# Altium footprint library ACTION_分立元件.PcbLib: 65 footprints (part 2 of 5)
Each footprint in its own frame and in the unit in brackets; x right, y up, seen from the top. Pads: shape width x height; smd on the part's side, far side on the other; paste and mask are expansions set on the pad; w line width, h text height; cw(c..) or ccw(c..) is an arc to the next point about the centre after c.
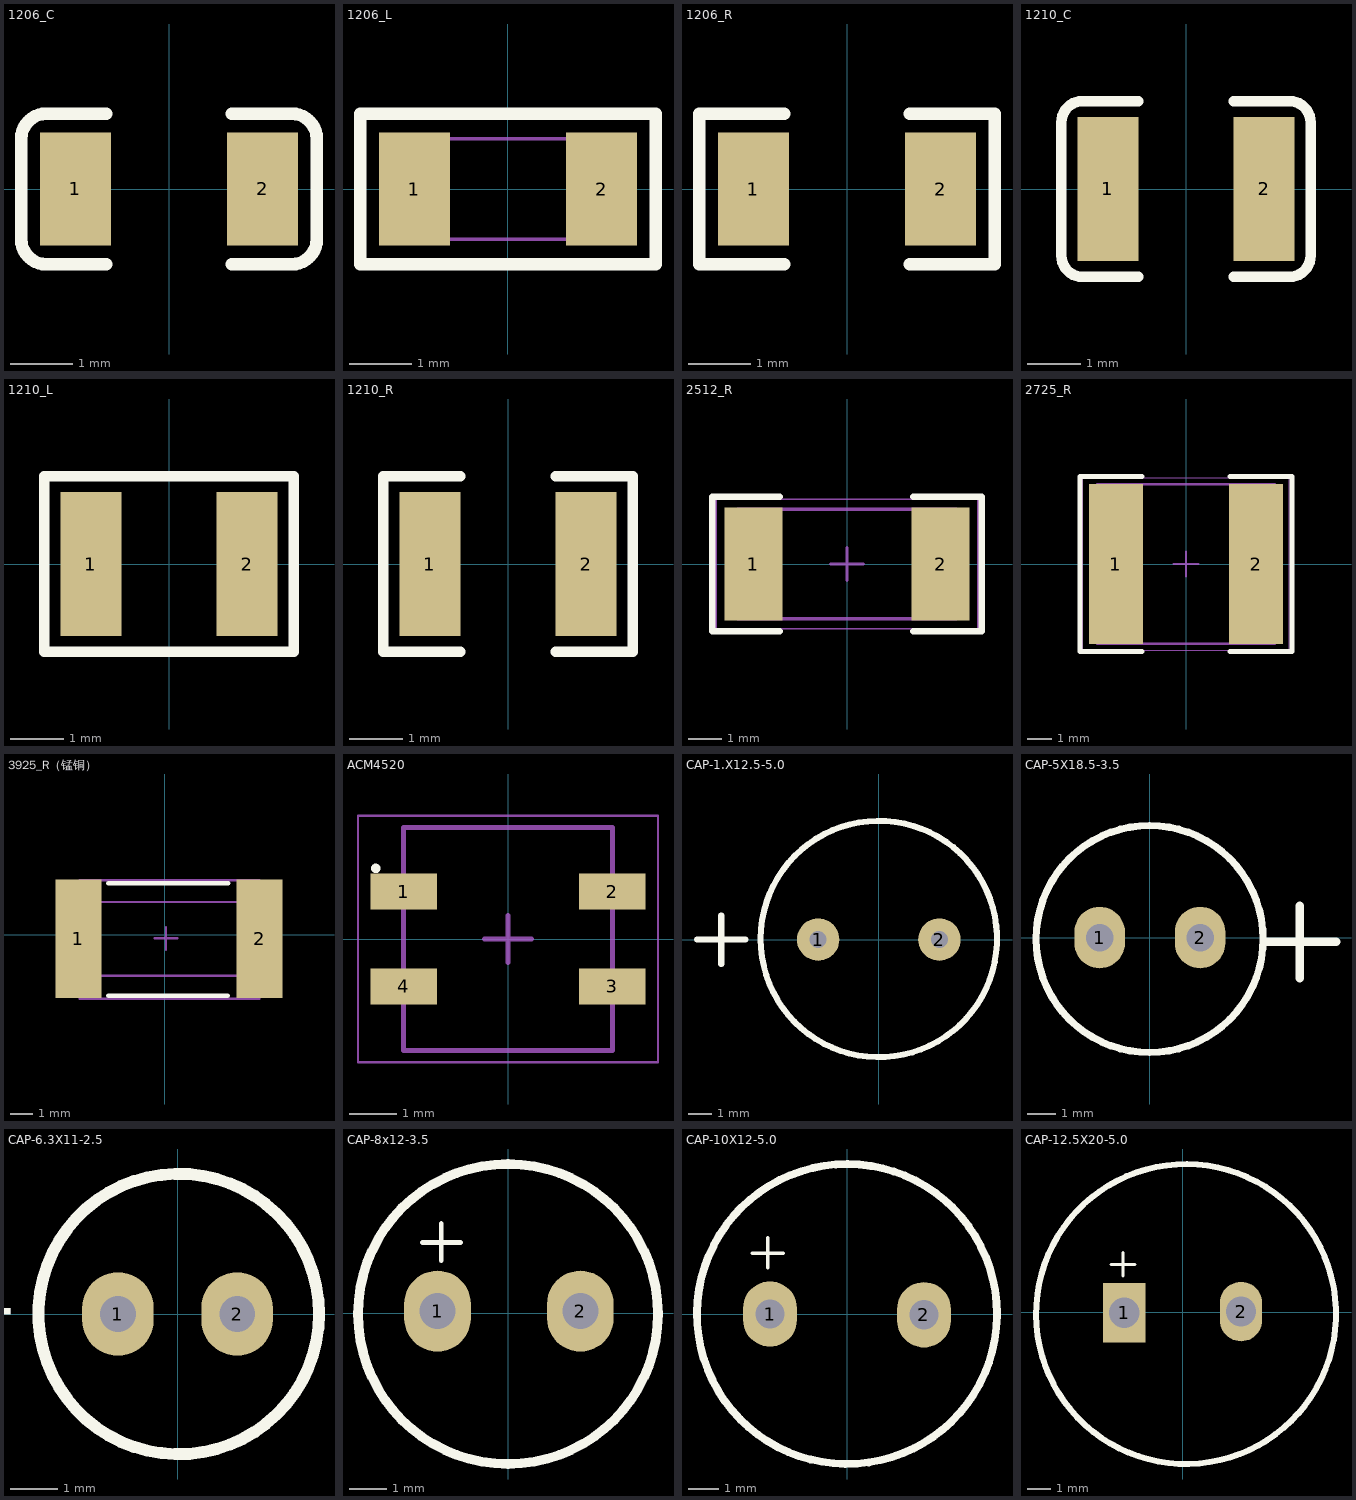
[diagram p1: the footprints below, top view; thin cyan lines are the x and y axes]

## 1206_C [mm]
pads (2):
  rect 1.13x1.8 smd: 1(-1.49,0) 2(1.49,0)
Top Overlay:
  lines w0.2: -1,-1.2 -1.955,-1.2 cw(c-1.955,-0.8) -2.355,-0.8 -2.355,0.8 cw(c-1.955,0.8) -1.955,1.2 -1,1.2 ; 1,-1.2 1.955,-1.2 ccw(c1.955,-0.8) 2.355,-0.8 2.355,0.8 ccw(c1.955,0.8) 1.955,1.2 1,1.2
3D body "C1206.STEP": height 1, standoff 0, extent -1.602,-0.813 1.598,0.787

## 1206_L [mm]
pads (2):
  rect 1.13x1.8 smd: 1(-1.49,0) 2(1.49,0)
Top Overlay:
  lines w0.2: -2.355,-1.2 -2.355,1.2 2.355,1.2 2.355,-1.2 -2.355,-1.2
Mechanical 13:
  lines w0.05: -1.6,-0.8 -1.6,0.8 1.6,0.8 1.6,-0.8 -1.6,-0.8

## 1206_R [mm]
pads (2):
  rect 1.13x1.8 smd: 1(-1.49,0) 2(1.49,0)
Top Overlay:
  lines w0.2: -1,-1.2 -2.355,-1.2 -2.355,1.2 -1,1.2 ; 1,-1.2 2.355,-1.2 2.355,1.2 1,1.2
3D body "User Library-RES_3216-1206.STEP": height 0.85, standoff 0, extent -1.7,-0.864 1.65,0.866

## 1210_C [mm]
pads (2):
  rect 1.16x2.72 smd: 1(-1.475,0) 2(1.475,0)
Top Overlay:
  lines w0.2: -0.9,-1.66 -1.955,-1.66 cw(c-1.955,-1.26) -2.355,-1.26 -2.355,1.26 cw(c-1.955,1.26) -1.955,1.66 -0.9,1.66 ; 0.9,-1.66 1.955,-1.66 ccw(c1.955,-1.26) 2.355,-1.26 2.355,1.26 ccw(c1.955,1.26) 1.955,1.66 0.9,1.66
3D body "User Library-cap_1210_lowprofile.step": height 1.3, standoff 0, extent -1.6,-1.25 1.6,1.25

## 1210_L [mm]
pads (2):
  rect 1.16x2.72 smd: 1(-1.475,0) 2(1.475,0)
Top Overlay:
  lines w0.2: 2.337,-1.66 -2.355,-1.66 -2.355,1.66 2.337,1.66 ; 2.355,-1.66 2.355,1.66
3D body "User Library-R_1210.STEP": height 0.6, standoff 0, extent -1.6,-1.25 1.6,1.25

## 1210_R [mm]
pads (2):
  rect 1.16x2.72 smd: 1(-1.475,0) 2(1.475,0)
Top Overlay:
  lines w0.2: -0.9,-1.66 -2.355,-1.66 -2.355,1.66 -0.9,1.66 ; 0.9,-1.66 2.355,-1.66 2.355,1.66 0.9,1.66
3D body "User Library-R_1210.STEP": height 0.6, standoff 0, extent -1.6,-1.25 1.6,1.25

## 2512_R [mm]
height 3.31
pads (2):
  rect 1.75x3.4 smd: 1(-2.825,0) 2(2.825,0)
Top Overlay:
  lines w0.2: -2.032,-2.032 -4.064,-2.032 -4.064,2.032 -2.032,2.032 ; 2.001,-2.032 4.033,-2.032 ; 2.001,2.032 4.033,2.032 ; 4.064,-2.032 4.064,2.032
Mechanical 13:
  lines w0.1: -3.3,-1.65 -3.3,1.65 3.3,1.65 3.3,-1.65 -3.3,-1.65
Mechanical 15:
  lines w0.05: -3.95,-1.95 -3.95,1.95 3.95,1.95 3.95,-1.95 -3.95,-1.95
  lines w0.1: -0.5,0 0.5,0 ; 0,-0.5 0,0.5
3D body "2512_R.step": height 3.05, standoff 0.01, extent -3.175,-1.522 3.175,1.522

## 2725_R [mm]
pads (2):
  rect 2.2x6.5 smd: 1(-2.85,0) 2(2.85,0)
Top Overlay:
  lines w0.2: -1.778,-3.556 -4.318,-3.556 -4.318,3.556 -1.778,3.556 ; 1.778,-3.556 4.318,-3.556 4.318,3.556 1.778,3.556
Mechanical 13:
  lines w0.1: -3.6,-3.25 3.6,-3.25 3.6,3.25 -3.6,3.25 -3.6,-3.25
Mechanical 15:
  lines w0.05: -4.2,-3.5 4.2,-3.5 4.2,3.5 -4.2,3.5 -4.2,-3.5
  lines w0.1: -0.5,0 0.5,0 ; 0,-0.5 0,0.5
3D body: height 1, standoff 0, extent 2.2,-3.25 3.6,3.25
3D body: height 1, standoff 0, extent -3.6,-3.25 -2.2,3.25
3D body: height 1, standoff 0, extent -2.2,-3.25 2.2,3.25

## 3925_R（锰铜） [mm]
pads (2):
  rect 2x5.2 smd: 1(-3.785,-0.178) 2(4.14,-0.178)
Top Overlay:
  lines w0.2: -2.489,-2.667 2.743,-2.667 ; -2.489,2.261 2.769,2.261
Mechanical 13:
  lines w0.1: -3.785,-1.788 -3.785,1.432 4.089,1.432 4.089,-1.788 -3.785,-1.788
Mechanical 15:
  lines w0.1: -0.449,-0.152 0.551,-0.152 ; 0.051,-0.66 0.051,0.34 ; -3.734,-2.794 -3.734,2.388 4.14,2.388 4.14,-2.794 -3.734,-2.794
3D body: height 0.38, standoff -0.71, extent -3.721,-2.565 4.229,2.286

## ACM4520 [mm] "Chip Array, Flat, 4-Leads, Pitch 2.00mm,  Body 4.50x4.70mm,  IPC Medium Density"
height 2
pads (4):
  rect 1.4x0.75 smd: 1(-2.2,1) 2(2.2,1) 3(2.2,-1) 4(-2.2,-1)
Top Overlay:
  circle w0.1: c-2.787,1.488 r0.05
Mechanical 13:
  lines w0.1: -2.2,-2.35 -2.2,2.35 2.2,2.35 2.2,-2.35 -2.2,-2.35
Mechanical 15:
  lines w0.05: -3.16,-2.6 -3.16,2.6 3.16,2.6 3.16,-2.6 -3.16,-2.6
  lines w0.1: -0.5,0 0.5,0 ; 0,-0.5 0,0.5
3D body: height 2, standoff 0, extent -2.45,-2.35 2.45,2.35

## CAP-1.X12.5-5.0 [mil]
pads (2):
  round 70 hole 28: 1(-100,0) 2(100,0)
Top Overlay:
  lines w10: -300,0 -220,0 ; -260,-40 -260,40 ; -195.04,1 ccw(c0,1) -195.04,2
3D body "CAP PR5.0x10x12.5mm.STEP": height 492.81, standoff -156.91, extent -197.86,-198.86 197.84,196.84

## CAP-5X18.5-3.5 [mil]
pads (2):
  oval 70x85 hole 38: 1(-69.5,0) 2(69.5,0)
Top Overlay:
  circle w10: c-0.5,-2 r157.11
  lines w12: 157.5,-6 257.5,-6 ; 207.5,-56 207.5,44
3D body "CAP PR3.5x8x11.5mm.STEP": height 453.44, standoff -156.91, extent -157.98,-159.48 158.98,157.48

## CAP-6.3X11-2.5 [mil]
pads (2):
  oval 60x70 hole 30: 1(-50,0) 2(50,0)
Top Overlay:
  circle w10: c1,0 r117.64
  text "+" at -133,23 h48
3D body "CAP PR2.5x6.3x11mm.STEP": height 103.67, standoff -468.76, extent -123.02,-125.02 127.01,125.01

## CAP-8x12-3.5 [mil]
pads (2):
  oval 70x85 hole 38: 1(-74,2) 2(76,2)
Top Overlay:
  circle w10: c0,-1 r157.48
  lines w5: -90,74 -50,74 ; -70,55 -70,94
3D body "Cap-EL(8x12-3_5)T.STEP": height 109.92, standoff -504.33, extent -157.48,-157.47 157.56,157.48

## CAP-10X12-5.0 [mil]
pads (2):
  oval 70x85 hole 38: 1(-100,0) 2(100,-1)
Top Overlay:
  lines w5: -123,79 -83,79 ; -103,60 -103,99
  lines w10: 194.81,-2.97 cw(c0,0) 194.83,0
3D body "CAP PR5.0x10x12.5mm.STEP": height 497.81, standoff -151.91, extent -197.84,-197.84 197.86,197.86

## CAP-12.5X20-5.0 [mil]
pads (2):
  rect 70x98.43 hole 50: 1(-96.5,-1)
  oval 70x98.43 hole 50: 2(96.5,1)
Top Overlay:
  lines w5: -118.5,79 -78.5,79 ; -98.5,60 -98.5,99
  lines w10: 249.22,42.9 ccw(c5.5,-3) 249.84,39.45
3D body "User Library-Cap-EL(12_5x20-5)T.STEP": height 137.8, standoff -807.17, extent -240.55,-254.05 251.65,238.06